# EAGLE library part VNC2-48Q1B (library FTDI_By_element14_Batch_1)
Embedded Dual USB Host Controller
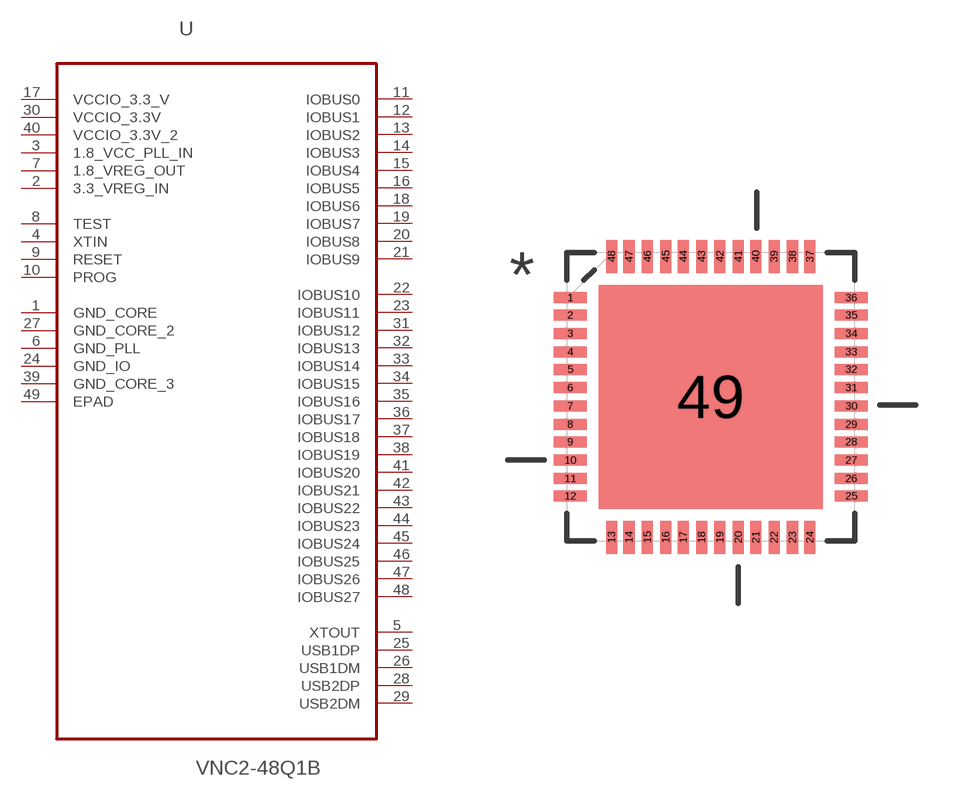
[diagram p3: symbol with the pads of QFN50P800X800X100-49N; footprint QFN50P800X800X100-49N]

Designator prefix U

## VNC2-48Q1B (MPN: VNC2-48Q1B; OC_FARNELL: 1863857; OC_NEWARK: 27T5921; PACKAGE: QFN-48; SUPPLIER: FTDI)  [QFN50P800X800X100-49N]
1  GND_CORE  pas
2  3.3_VREG_IN  pwr
3  1.8_VCC_PLL_IN  pwr
4  XTIN  in
5  XTOUT  out
6  GND_PLL  pas
7  1.8_VREG_OUT  pwr
8  TEST  in
9  RESET  in
10  PROG  in
11  IOBUS0
12  IOBUS1
13  IOBUS2
14  IOBUS3
15  IOBUS4
16  IOBUS5
17  VCCIO_3.3_V  pwr
18  IOBUS6
19  IOBUS7
20  IOBUS8
21  IOBUS9
22  IOBUS10
23  IOBUS11
24  GND_IO  pas
25  USB1DP
26  USB1DM
27  GND_CORE_2  pas
28  USB2DP
29  USB2DM
30  VCCIO_3.3V  pwr
31  IOBUS12
32  IOBUS13
33  IOBUS14
34  IOBUS15
35  IOBUS16
36  IOBUS17
37  IOBUS18
38  IOBUS19
39  GND_CORE_3  pas
40  VCCIO_3.3V_2  pwr
41  IOBUS20
42  IOBUS21
43  IOBUS22
44  IOBUS23
45  IOBUS24
46  IOBUS25
47  IOBUS26
48  IOBUS27
49  EPAD  pas

## Footprint QFN50P800X800X100-49N (pad centres in mm)
smd 0.914 x 0.305: 1 -3.886,2.743; 2 -3.886,2.261; 3 -3.886,1.753; 4 -3.886,1.245; 5 -3.886,0.762; 6 -3.886,0.254; 7 -3.886,-0.254; 8 -3.886,-0.762; 9 -3.886,-1.245; 10 -3.886,-1.753; 11 -3.886,-2.261; 12 -3.886,-2.743; 25 3.886,-2.743; 26 3.886,-2.261; 27 3.886,-1.753; 28 3.886,-1.245; 29 3.886,-0.762; 30 3.886,-0.254; 31 3.886,0.254; 32 3.886,0.762; 33 3.886,1.245; 34 3.886,1.753; 35 3.886,2.261; 36 3.886,2.743
smd 0.305 x 0.914: 13 -2.743,-3.886; 14 -2.261,-3.886; 15 -1.753,-3.886; 16 -1.245,-3.886; 17 -0.762,-3.886; 18 -0.254,-3.886; 19 0.254,-3.886; 20 0.762,-3.886; 21 1.245,-3.886; 22 1.753,-3.886; 23 2.261,-3.886; 24 2.743,-3.886; 37 2.743,3.886; 38 2.261,3.886; 39 1.753,3.886; 40 1.245,3.886; 41 0.762,3.886; 42 0.254,3.886; 43 -0.254,3.886; 44 -0.762,3.886; 45 -1.245,3.886; 46 -1.753,3.886; 47 -2.261,3.886; 48 -2.743,3.886
smd 6.198 x 6.198: 49 0,0